# Altium footprint library FHD01FSB300K6M.PcbLib: 1 footprints
Each footprint in its own frame and in the unit in brackets; x right, y up, seen from the top. Pads: shape width x height; smd on the part's side, far side on the other; paste and mask are expansions set on the pad; w line width, h text height; cw(c..) or ccw(c..) is an arc to the next point about the centre after c.
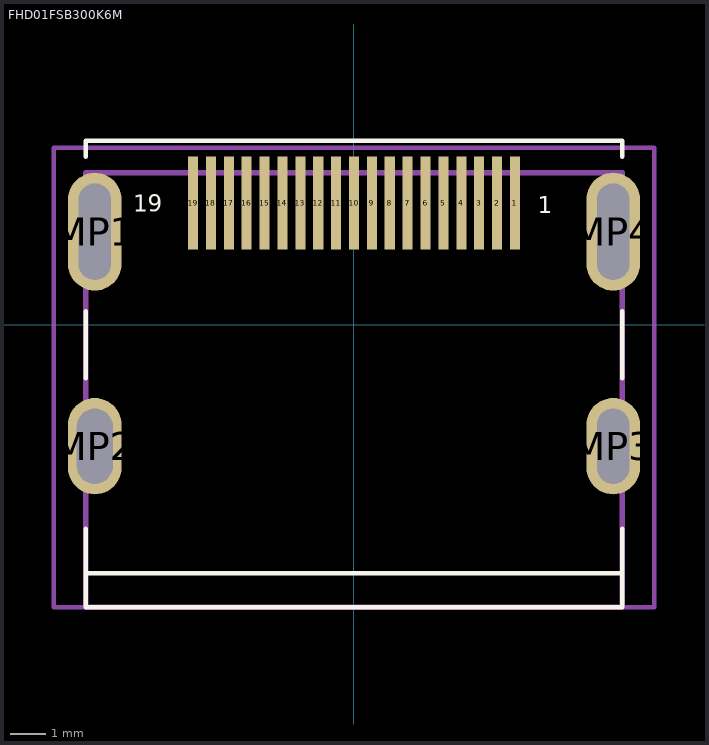
[diagram p0: the footprint, top view; thin cyan lines are the x and y axes]

## FHD01FSB300K6M [mm] "HDMI Type A Size 15x12.15mm"
height 6.3
pads (23):
  rect 0.28x2.6 smd: 1(4.5,3.4) 2(4,3.4) 3(3.5,3.4) 4(3,3.4) 5(2.5,3.4) 6(2,3.4) 7(1.5,3.4) 8(1,3.4) 9(0.5,3.4) 10(0,3.4) 11(-0.5,3.4) 12(-1,3.4) 13(-1.5,3.4) 14(-2,3.4) 15(-2.5,3.4) 16(-3,3.4) 17(-3.5,3.4) 18(-4,3.4) 19(-4.5,3.4)
  oval 1.5x3.3 hole 0.9 slot 2.7 at 90 deg: MP1(-7.25,2.6) MP4(7.25,2.6)
  oval 1.5x2.7 hole 1 slot 2.1 at 90 deg: MP2(-7.25,-3.4)
  oval 1.5x2.7 hole 0.9 slot 2.1 at 90 deg: MP3(7.25,-3.4)
Top Overlay:
  lines w0.127: -7.5,-5.715 -7.5,-6.95 ; -7.5,-1.5 -7.5,0.381 ; -7.5,4.699 -7.5,5.139 7.5,5.139 7.5,4.699 ; 7.5,-5.715 7.5,-6.95 ; 7.5,-1.5 7.5,0.381 ; -7.5,-6.95 -7.5,-7.9 7.5,-7.9 7.5,-6.95 ; -7.5,-6.95 7.5,-6.95
  text "1" at 5.14,2.96 h0.8
  text "19" at -6.18,3.01 h0.8
Mechanical 13:
  lines w0.152: -7.5,-7.9 -7.5,4.25 7.5,4.25 7.5,-7.9 -7.5,-7.9
Mechanical 15:
  lines w0.127: -8.4,-7.9 8.4,-7.9 8.4,4.95 -8.4,4.95 -8.4,-7.9
3D body: height 6.24, standoff -2.14, extent -7.5,-7.9 7.5,4.25